# Altium schematic symbol library SX3M32.768KM20F30TNN1_SX3M32.768KM20F30TNN.SCHLIB: 1 symbol
Pins are listed as number, name and electrical type; pins without a type are passive.

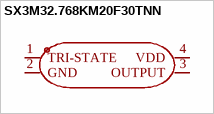
[diagram p0: symbol SX3M32.768KM20F30TNN]

## SX3M32.768KM20F30TNN
designator X??, comment 32.768kHz  (value not drawn)
Manufacturer: SCTF(星通时频); Symbol: SX3M32.768KM20F30TNN; Add into BOM: yes; Normal temperature Frequency Tolerance: ±20ppm; Output Type: CMOS; Voltage - Supply: 1.62V~3.63V; Current - Supply: 90uA; Frequency Stability: ±30ppm; Device: SX3M32.768KM20F30TNN; LCSC Part Name: 32.768kHz ±20ppm 1.62V~3.63V CMOS; Supplier Part: C2901582; Manufacturer Part: SX3M32.768KM20F30TNN; Supplier Footprint: SMD3225-4P; JLCPCB Part Class: Extended Part; Datasheet: https://atta.szlcsc.com/upload/public/pdf/source/20240605/38A6F081BC26201D4BADAAB4D2EED01C.pdf; Supplier: LCSC; Convert to PCB: yes; Value: 32.768kHz; Operating Temperature: -40℃~+85℃
footprint OSC-SMD_4P-L3.2-W2.5-BL
3D model OSC-SMD_4P-L3.2-W2.5-H1.0
pins: 1 TRI-STATE, 2 GND, 3 OUTPUT, 4 VDD